# Altium schematic symbol library Core51822-related.SchLib: 8 symbols
Pins are listed as number, name and electrical type; pins without a type are passive.

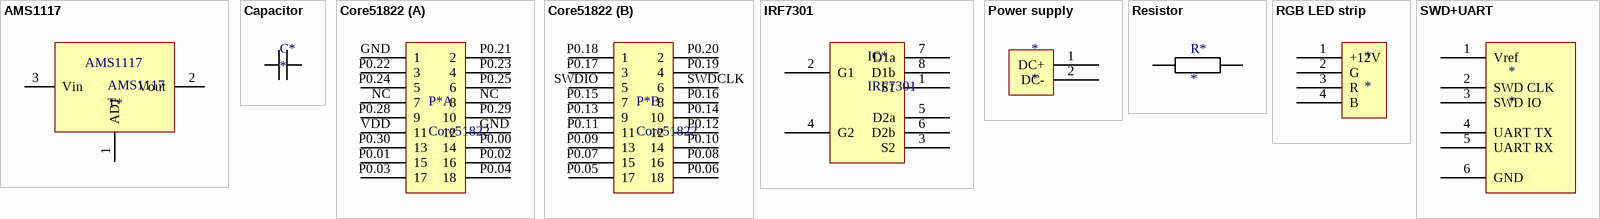
[diagram p0: symbols AMS1117 to SWD+UART]

## AMS1117
designator AMS1117, comment T*
pins: 1 ADJ, 2 Vout, 3 Vin

## Capacitor
designator C*
pins: 1, 2

## Core51822
designator P*
part A pins: GND 1, GND 12, NC 7, NC 8, P0.00 14, P0.01 15, P0.02 16, P0.03 17, P0.04 18, P0.21 2, P0.22 3 (power), P0.23 4, P0.24 5, P0.25 6, P0.28 9, P0.29 10, P0.30 13, VDD 11
part B pins: P0.05 17, P0.06 18, P0.07 15, P0.08 16, P0.09 13, P0.10 14, P0.11 11, P0.12 12, P0.13 9, P0.14 10, P0.15 7, P0.16 8, P0.17 3 (power), P0.18 1, P0.19 4, P0.20 2, SWDCLK 6, SWDIO 5

## IRF7301
designator IC*
footprint SOIC8 (SOIC, 8-Leads, Body 4.9x3.9mm, Pitch 1.27mm, IPC High Density)
pins: 1 S1, 2 G1, 3 S2, 4 G2, 5 D2a, 6 D2b, 7 D1a, 8 D1b

## Power supply
designator *
pins: 1 DC+, 2 DC-

## Resistor
designator R*
pins: 1, 2

## RGB LED strip
designator *
pins: 1 +12V, 2 G, 3 R, 4 B

## SWD+UART
designator *
pins: 1 Vref, 2 SWD CLK, 3 SWD IO, 4 UART TX, 5 UART RX, 6 GND